# EAGLE library part ATSAMD21 (library Atmel ATSAMD21)
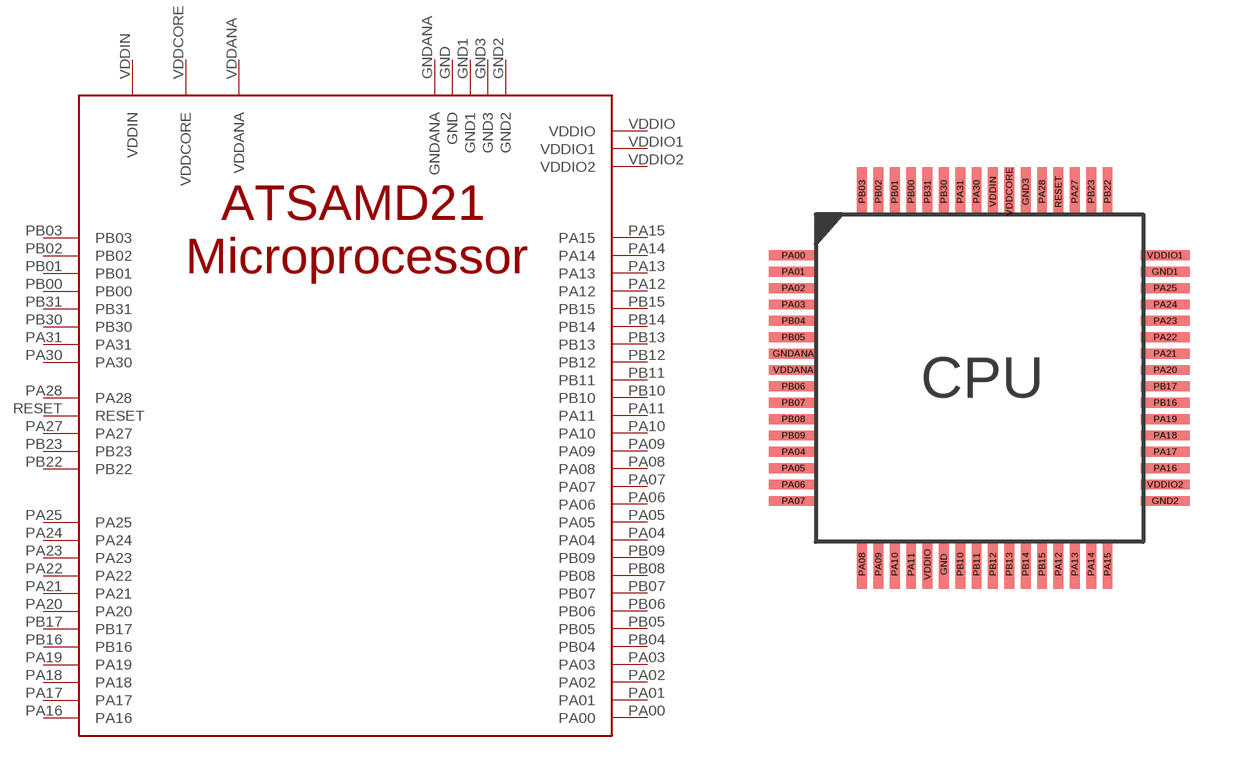
[diagram p0: symbol with the pads of SAMD21; footprint SAMD21]

Designator prefix -

## ATSAMD2164TQFP  [SAMD21]
GND  GND
GND1  GND1
GND2  GND2
GND3  GND3
GNDANA  GNDANA
PA00  PA00
PA01  PA01
PA02  PA02
PA03  PA03
PA04  PA04
PA05  PA05
PA06  PA06
PA07  PA07
PA08  PA08
PA09  PA09
PA10  PA10
PA11  PA11
PA12  PA12
PA13  PA13
PA14  PA14
PA15  PA15
PA16  PA16
PA17  PA17
PA18  PA18
PA19  PA19
PA20  PA20
PA21  PA21
PA22  PA22
PA23  PA23
PA24  PA24
PA25  PA25
PA27  PA27
PA28  PA28
PA30  PA30
PA31  PA31
PB00  PB00
PB01  PB01
PB02  PB02
PB03  PB03
PB04  PB04
PB05  PB05
PB06  PB06
PB07  PB07
PB08  PB08
PB09  PB09
PB10  PB10
PB11  PB11
PB12  PB12
PB13  PB13
PB14  PB14
PB15  PB15
PB16  PB16
PB17  PB17
PB22  PB22
PB23  PB23
PB30  PB30
PB31  PB31
RESET  RESET
VDDANA  VDDANA
VDDCORE  VDDCORE
VDDIN  VDDIN
VDDIO  VDDIO
VDDIO1  VDDIO1
VDDIO2  VDDIO2

## Footprint SAMD21 (pad centres in mm)
smd 0.3 x 1.5: GND 3.912,-10.687; GND3 6.412,0.693; PA08 1.412,-10.687; PA09 1.912,-10.687; PA10 2.412,-10.687; PA11 2.912,-10.687; PA12 7.412,-10.687; PA13 7.912,-10.687; PA14 8.412,-10.687; PA15 8.912,-10.687; PA27 7.912,0.693; PA28 6.912,0.693; PA30 4.912,0.693; PA31 4.412,0.693; PB00 2.912,0.693; PB01 2.412,0.693; PB02 1.912,0.693; PB03 1.412,0.693; PB10 4.412,-10.687; PB11 4.912,-10.687; PB12 5.412,-10.687; PB13 5.912,-10.687; PB14 6.412,-10.687; PB15 6.912,-10.687; PB22 8.912,0.693; PB23 8.412,0.693; PB30 3.912,0.693; PB31 3.412,0.693; RESET 7.412,0.693; VDDCORE 5.912,0.693; VDDIN 5.412,0.693; VDDIO 3.412,-10.687
smd 1.5 x 0.3: GND1 10.673,-1.752; GND2 10.673,-8.752; GNDANA -0.687,-4.252; PA00 -0.687,-1.252; PA01 -0.687,-1.752; PA02 -0.687,-2.252; PA03 -0.687,-2.752; PA04 -0.687,-7.252; PA05 -0.687,-7.752; PA06 -0.687,-8.252; PA07 -0.687,-8.752; PA16 10.673,-7.752; PA17 10.673,-7.252; PA18 10.673,-6.752; PA19 10.673,-6.252; PA20 10.673,-4.752; PA21 10.673,-4.252; PA22 10.673,-3.752; PA23 10.673,-3.252; PA24 10.673,-2.752; PA25 10.673,-2.252; PB04 -0.687,-3.252; PB05 -0.687,-3.752; PB06 -0.687,-5.252; PB07 -0.687,-5.752; PB08 -0.687,-6.252; PB09 -0.687,-6.752; PB16 10.673,-5.752; PB17 10.673,-5.252; VDDANA -0.687,-4.752; VDDIO1 10.673,-1.252; VDDIO2 10.673,-8.252